# Altium schematic symbol library Xbee3_Micro_Customer_Sch_Symbol.SchLib: 1 symbol
Pins are listed as number, name and electrical type; pins without a type are passive.

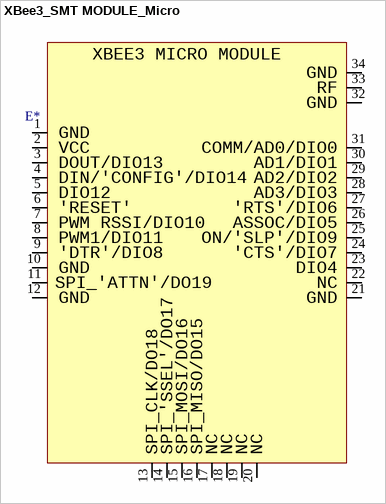
[diagram p0: symbol XBee3_SMT MODULE_Micro]

## XBee3_SMT MODULE_Micro
designator E*  (value not drawn)
XBee3_SMT MODULE_Micro
pins: 1, 2, 3, 4, 5, 6, 7, 8, 9, 10, 11, 12, 13, 14, 15, 16, 17, 18, 19, 20, 21, 22, 23, 24, 25, 26, 27, 28, 29, 30, 31, 32, 33, 34
text: XBEE3 MICRO MODULE; GND; RF; VCC; COMM/AD0/DIO0; DOUT/DIO13; AD1/DIO1; DIN/'CONFIG'/DIO14; AD2/DIO2; DIO12; AD3/DIO3; 'RESET'; 'RTS'/DIO6; PWM RSSI/DIO10; ASSOC/DIO5; PWM1/DIO11; ON/'SLP'/DIO9; 'DTR'/DIO8; 'CTS'/DIO7; DIO4; SPI_'ATTN'/DO19; NC; SPI_CLK/DO18; SPI_'SSEL'/DO17; SPI_MOSI/DO16; SPI_MISO/DO15